# EAGLE library part LCD_FPC (library LARS_409_MODULES)
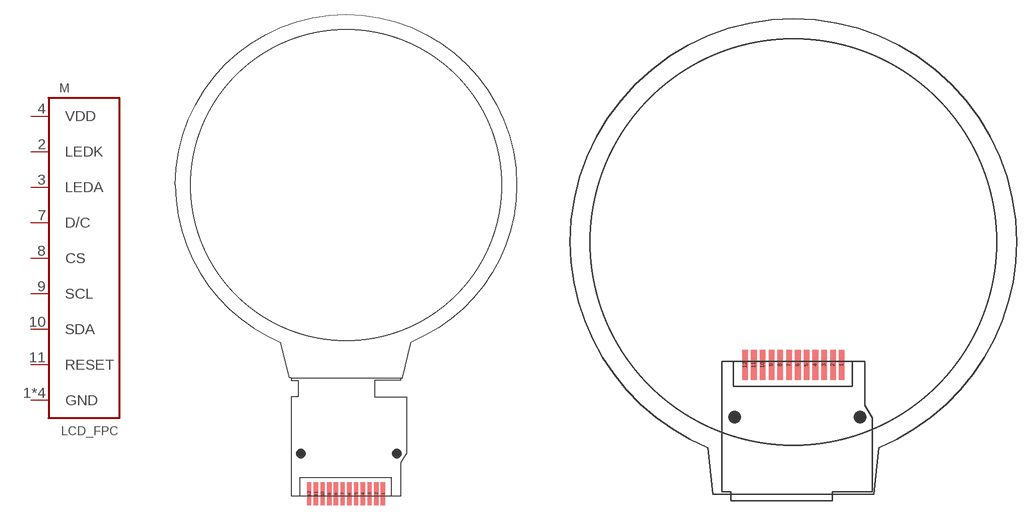
[diagram p13: symbol with the pads of FR-128HR01A; footprints FR-128HR01A, FR-128HR01A_FOLD]

Designator prefix M

## LCD_FPCST  [FR-128HR01A]
1  GND
2  LEDK
3  LEDA
4  VDD
5  GND
6  GND
7  D/C
8  CS
9  SCL
10  SDA
11  RESET
12  GND

## LCD_FPCFOLD  [FR-128HR01A_FOLD]
Pads as for FR-128HR01A

## Footprint FR-128HR01A (pad centres in mm)
smd 0.45 x 2.4: 1 3.85,-31.58; 2 3.15,-31.58; 3 2.45,-31.58; 4 1.75,-31.58; 5 1.05,-31.58; 6 0.35,-31.58; 7 -0.35,-31.58; 8 -1.05,-31.58; 9 -1.75,-31.58; 10 -2.45,-31.58; 11 -3.15,-31.58; 12 -3.85,-31.58

## Footprint FR-128HR01A_FOLD (pad centres in mm)
smd 0.45 x 2.4: 1 3.85,-8.53; 2 3.15,-8.53; 3 2.45,-8.53; 4 1.75,-8.53; 5 1.05,-8.53; 6 0.35,-8.53; 7 -0.35,-8.53; 8 -1.05,-8.53; 9 -1.75,-8.53; 10 -2.45,-8.53; 11 -3.15,-8.53; 12 -3.85,-8.53